# EAGLE library part 87834-1019 (library SamacSys_Parts)
Headers & Wire Housings CGrid Hdr W/Pg/Slt Pg/Slt .13AuLF 10Ckt Source: Datasheet <https://www.molex.com/pdm_docs/sd/878341019_sd.pdf>
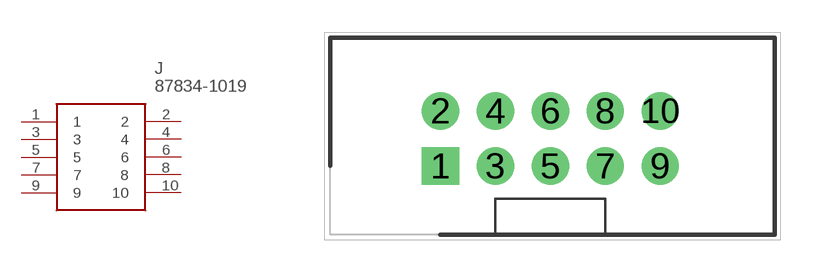
[diagram p108: symbol with the pads of SHDR10W67P254_2X5_2032X889X947; footprint SHDR10W67P254_2X5_2032X889X947]

Designator prefix J

## 87834-1019 (DESCRIPTION: Headers & Wire Housings CGrid Hdr W/Pg/Slt Pg/Slt .13AuLF 10Ckt; HEIGHT: 9.47mm; MANUFACTURER_NAME: Molex; MANUFACTURER_PART_NUMBER: 87834-1019; MOUSER_PART_NUMBER: 538-87834-1019; MOUSER_PRICE-STOCK: https://www.mouser.co.uk/ProductDetail/Molex/87834-1019?qs=kNSQ05%252BLZoBzaXOSEqy0Cg%3D%3D)  [SHDR10W67P254_2X5_2032X889X947]
1  1
2  2
3  3
4  4
5  5
6  6
7  7
8  8
9  9
10  10

## Footprint SHDR10W67P254_2X5_2032X889X947 (pad centres in mm)
87834-1019
drill 1.15 pad 1.725 square: 1 0,0
drill 1.15 pad 1.725: 2 0,2.54; 3 2.54,0; 4 2.54,2.54; 5 5.08,0; 6 5.08,2.54; 7 7.62,0; 8 7.62,2.54; 9 10.16,0; 10 10.16,2.54